# Altium footprint library ADCSFootprints.PcbLib: 63 footprints (part 3 of 4)
Each footprint in its own frame and in the unit in brackets; x right, y up, seen from the top. Pads: shape width x height; smd on the part's side, far side on the other; paste and mask are expansions set on the pad; w line width, h text height; cw(c..) or ccw(c..) is an arc to the next point about the centre after c.
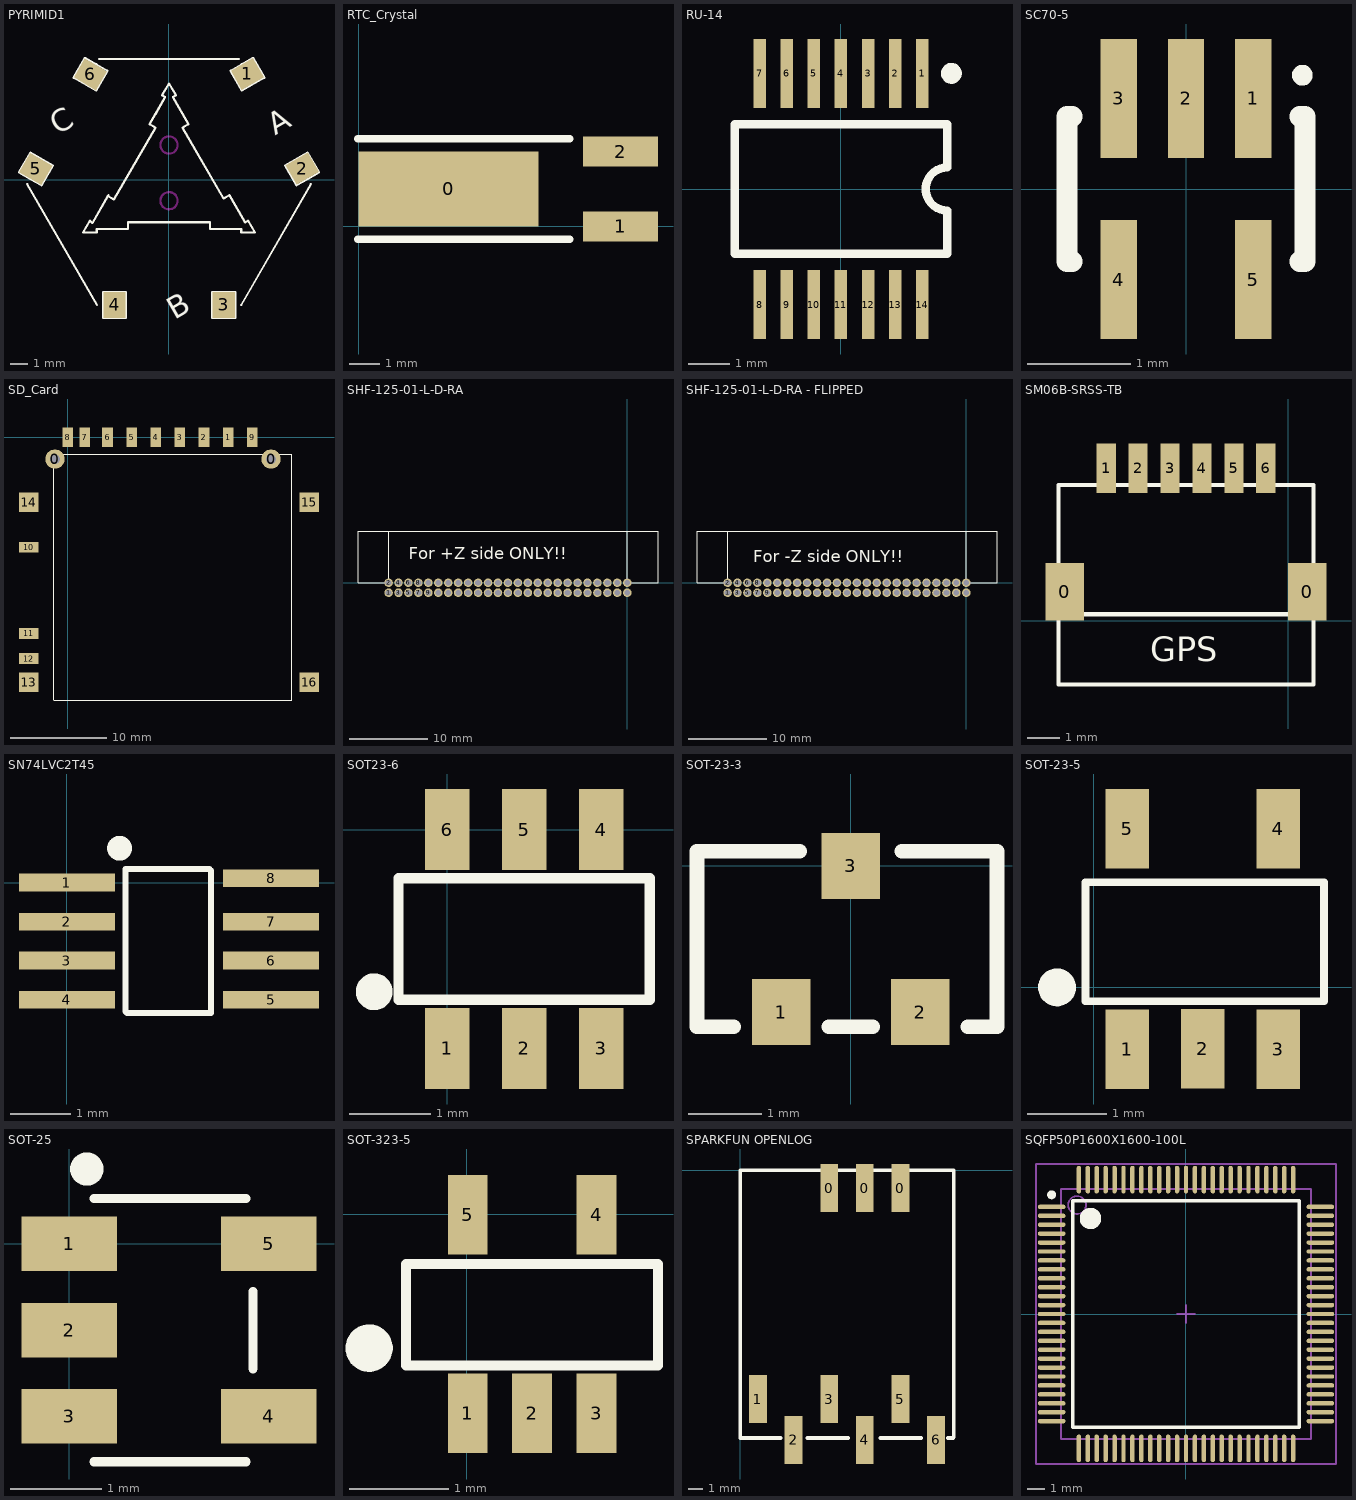
[diagram p2: the footprints below, top view; thin cyan lines are the x and y axes]

## PYRIMID1 [mm] "2 April 2011"
pads (6):
  rect 1.3x1.5 smd rot 120: 1(4.575,6.15) 2(7.75,0.65)
  rect 1.3x1.5 smd: 3(3.2,-7.275) 4(-3.15,-7.275)
  rect 1.3x1.5 smd rot 60: 5(-7.725,0.625) 6(-4.55,6.125)
Top Overlay:
  lines w0.127: -8.227,-0.25 -4.166,-7.283 ; -4.166,-2.867 -2.365,-2.867 ; -4.036,7.009 4.067,7.009 ; -3.528,-0.943 -3.502,-0.898 ; -3.161,-1.095 -0.78,3.029 ; -0.782,3.814 -0.212,4.801 ; 0.243,4.801 1.153,3.226 ; 2.397,-2.867 4.216,-2.867 ; 3.534,-0.898 4.434,-2.458 ; 4.216,-7.283 8.258,-0.25 ; -0.78,3.029 -3.187,-1.14 -3.532,-0.941 -4.443,-2.515 -4.584,-2.374 -4.984,-3.066 -4.184,-3.066 -4.184,-2.866 -2.365,-2.866 -2.365,-2.474 2.397,-2.474 2.397,-2.866 4.216,-2.866 4.216,-3.066 5.016,-3.066 4.616,-2.374 4.443,-2.474 3.533,-0.899 3.193,-1.095 0.812,3.029 1.152,3.226 0.243,4.801 0.416,4.901 0.016,5.594 -0.384,4.901 -0.211,4.801 -1.122,3.227 -0.78,3.029 ; -8.702,0.428 -8.035,1.583 -6.736,0.833 -7.403,-0.322 -8.052,0.053 -8.702,0.428 ; -5.527,5.927 -4.228,5.177 -3.561,6.332 -4.21,6.707 -4.86,7.082 -5.527,5.927 ; -3.817,-8.033 -2.483,-8.033 -2.483,-6.533 -3.817,-6.533 -3.817,-7.283 -3.817,-8.033 ; 2.533,-8.033 2.533,-6.533 3.867,-6.533 3.867,-7.283 3.867,-8.033 2.533,-8.033 ; 3.593,6.332 4.259,5.177 5.558,5.927 4.892,7.082 4.242,6.707 3.593,6.332 ; 6.768,0.833 7.434,-0.322 8.084,0.053 8.733,0.428 8.067,1.583 6.768,0.833
  text "C" at -6.448,2.583 h1.27
  text "B" at 0.342,-8.161 h1.27
  text "A" at 6.186,2.545 h1.27
Keep-Out Layer:
  circle w0.127: c0.016,-1.221 r0.5
  circle w0.127: c0.016,2.016 r0.5

## RTC_Crystal [mm] "ECS-.327-12.5-13FLX-C"
pads (3):
  rect 6x2.5 smd: 0(3,1.25)
  rect 2.5x1 smd: 1(8.75,0) 2(8.75,2.5)
Top Overlay:
  lines w0.254: -0.025,-0.425 7.05,-0.425 ; -0.025,2.925 7.05,2.925

## RU-14 [mm] "Shrink Small Outline, TSSOP; 14 Leads; Body Width 4.4 mm; Pitch 0.65 mm"
height 1.2
pads (14):
  rect 0.3x1.65 smd: 1(1.95,2.775) 2(1.3,2.775) 3(0.65,2.775) 4(0,2.775) 5(-0.65,2.775) 6(-1.3,2.775) 7(-1.95,2.775) 8(-1.95,-2.775) 9(-1.3,-2.775) 10(-0.65,-2.775) 11(0,-2.775) 12(0.65,-2.775) 13(1.3,-2.775) 14(1.95,-2.775)
Top Overlay:
  circle w0.25: c2.65,2.775 r0.125
  lines w0.2: -2.55,-1.55 2.55,-1.55 2.55,-0.517 cw(c2.55,0) 2.55,0.517 2.55,1.55 -2.55,1.55 -2.55,-1.55

## SC70-5 [mm] "SOT-353/SC-88A; 5 Leads; Body 2.2 x 2.4 mm, inc. leads (LxW max)"
height 1.1
pads (5):
  rect 0.35x1.15 smd: 1(0.65,0.875) 2(0,0.875) 3(-0.65,0.875) 4(-0.65,-0.875) 5(0.65,-0.875)
Top Overlay:
  circle w0.1: c1.125,1.1 r0.05
  lines w0.2: -1.1,-0.7 -1.15,-0.7 -1.15,0.7 -1.1,0.7 ; 1.1,-0.7 1.15,-0.7 1.15,0.7 1.1,0.7

## SD_Card [mm]
pads (18):
  round 2 hole 1: 0(-1.325,-2.275) 0(21.075,-2.275)
  rrect0% 1.1x2 smd: 1(16.625,0) 2(14.125,0) 3(11.625,0) 4(9.125,0) 5(6.625,0) 6(4.125,0) 7(1.75,0) 8(0,0) 9(19.125,0)
  rrect0% 2x1.1 smd: 10(-4.05,-11.4) 11(-4.05,-20.35) 12(-4.05,-22.95)
  rrect0% 2x2 smd: 13(-4.05,-25.4) 14(-4.05,-6.75) 15(25.05,-6.75) 16(25.05,-25.4)
Top Overlay:
  lines w0.1: -1.45,-27.3 23.25,-27.3 23.25,-1.775 -0.875,-1.775 -1.45,-1.775 -1.45,-27.225

## SHF-125-01-L-D-RA [mil] "Right angle shrouded header for Samtec ribbon cable assy."
pads (50):
  round 43 hole 29: 1(-1200.79,-50) 2(-1200.79,0) 3(-1150.79,-50) 4(-1150.79,0) 5(-1100.79,-50) 6(-1100.79,0) 7(-1050.79,-50) 8(-1050.79,0) 9(-1000.79,-50) 10(-1000.79,0) 11(-950.79,-50) 12(-950.79,0) 13(-900.79,-50) 14(-900.79,0) 15(-850.79,-50) 16(-850.79,0) 17(-800.79,-50) 18(-800.79,0) 19(-750.79,-50) 20(-750.79,0) 21(-700.79,-50) 22(-700.79,0) 23(-650.79,-50) 24(-650.79,0) 25(-600.79,-50) 26(-600.79,0) 27(-550.79,-50) 28(-550.79,0) 29(-500.79,-50) 30(-500.79,0) 31(-450.79,-50) 32(-450.79,0) 33(-400.79,-50) 34(-400.79,0) 35(-350.79,-50) 36(-350.79,0) 37(-300.79,-50) 38(-300.79,0) 39(-250.79,-50) 40(-250.79,0) 41(-200.79,-50) 42(-200.79,0) 43(-150.79,-50) 44(-150.79,0) 45(-100.79,-50) 46(-100.79,0) 47(-50.79,-50) 48(-50.79,0) 49(-0.79,-50) 50(-0.79,0)
Top Overlay:
  lines w5: -1200.79,0 -1354.33,0 -1354.33,259.84 -1200.79,259.84 ; -1200,0 -1200,260 0,260 0,50 0,0 153.54,0 153.54,259.84 0,259.84
  text "For +Z side ONLY!!" at -1098.43,117.13 h60
3D body: height 64.58, standoff -240.05, extent -1350,-60 150,257.59

## SHF-125-01-L-D-RA - FLIPPED [mil] "Right angle shrouded header for Samtec ribbon cable assy."
pads (50):
  round 43 hole 29: 1(-1200.79,-50) 2(-1200.79,0) 3(-1150.79,-50) 4(-1150.79,0) 5(-1100.79,-50) 6(-1100.79,0) 7(-1050.79,-50) 8(-1050.79,0) 9(-1000.79,-50) 10(-1000.79,0) 11(-950.79,-50) 12(-950.79,0) 13(-900.79,-50) 14(-900.79,0) 15(-850.79,-50) 16(-850.79,0) 17(-800.79,-50) 18(-800.79,0) 19(-750.79,-50) 20(-750.79,0) 21(-700.79,-50) 22(-700.79,0) 23(-650.79,-50) 24(-650.79,0) 25(-600.79,-50) 26(-600.79,0) 27(-550.79,-50) 28(-550.79,0) 29(-500.79,-50) 30(-500.79,0) 31(-450.79,-50) 32(-450.79,0) 33(-400.79,-50) 34(-400.79,0) 35(-350.79,-50) 36(-350.79,0) 37(-300.79,-50) 38(-300.79,0) 39(-250.79,-50) 40(-250.79,0) 41(-200.79,-50) 42(-200.79,0) 43(-150.79,-50) 44(-150.79,0) 45(-100.79,-50) 46(-100.79,0) 47(-50.79,-50) 48(-50.79,0) 49(-0.79,-50) 50(-0.79,0)
Top Overlay:
  lines w5: -1200.79,0 -1354.33,0 -1354.33,259.84 -1200.79,259.84 ; -1200,0 -1200,260 0,260 0,50 0,0 153.54,0 153.54,259.84 0,259.84
  text "For -Z side ONLY!!" at -1070.87,103.35 h60
3D body: height 64.58, standoff -240.05, extent -1350,-60 150,257.59

## SM06B-SRSS-TB [mm] "Right-angle GPS connector"
height 2.9
pads (8):
  rect 1.2x1.8 smd: 0(-7,0.9) 0(0.6,0.9)
  rect 0.6x1.55 smd: 1(-5.7,4.775) 2(-4.7,4.775) 3(-3.7,4.775) 4(-2.7,4.775) 5(-1.7,4.775) 6(-0.7,4.775)
Top Overlay:
  lines w0.127: -7.2,0.2 0,0.2 0.8,0.2 ; 0.8,0.2 0.8,-2 -7.2,-2 -7.2,4.25 0,4.25 0.8,4.25 0.8,0.2
  text "GPS" at -4.318,-1.27 h0.76

## SN74LVC2T45 [mm]
pads (8):
  rrect0% 1.6x0.3 smd: 1(0,0) 2(0,-0.65) 3(0,-1.3) 4(0,-1.95) 5(3.4,-1.95) 6(3.4,-1.3) 7(3.4,-0.65) 8(3.4,0.075)
Top Overlay:
  circle w0.254: c0.875,0.575 r0.079
  lines w0.1: 0.975,0.2 0.975,-2.15 1,-2.175 2.4,-2.175 2.4,0.2 2.375,0.225 0.975,0.225

## SOT23-6 [mm]
pads (6):
  rect 0.55x1 smd: 1(0,-2.7) 2(0.95,-2.7) 3(1.9,-2.7) 4(1.9,0) 5(0.95,0) 6(0,0)
Top Overlay:
  circle w0.254: c-0.9,-2 r0.1
  lines w0.127: -0.6,-2.1 -0.6,-0.6 2.5,-0.6 2.5,-2.1 -0.6,-2.1

## SOT-23-3 [mm]
pads (3):
  rect 0.8x0.9 smd: 1(-0.95,-2) 2(0.95,-2) 3(0,0)
Top Overlay:
  lines w0.2: -1.6,-2.2 -2.1,-2.2 -2.1,0.2 -0.7,0.2 ; -0.3,-2.2 0.3,-2.2 ; 0.7,0.2 2,0.2 2,-2.2 1.6,-2.2

## SOT-23-5 [mm]
pads (5):
  rect 0.55x1 smd: 1(0.425,-0.781) 2(1.375,-0.775) 3(2.325,-0.781) 4(2.325,2) 5(0.425,2)
Top Overlay:
  circle w0.254: c-0.462,0 r0.112
  lines w0.1: -0.1,-0.175 -0.1,1.325 2.902,1.325 2.902,-0.175 -0.1,-0.175

## SOT-25 [mm]
pads (5):
  rrect0% 1.05x0.6 smd: 1(0,0) 2(0,-0.95) 3(0,-1.9) 4(2.2,-1.9) 5(2.2,0)
Top Overlay:
  circle w0.254: c0.194,0.825 r0.056
  lines w0.1: 0.275,-2.4 1.95,-2.4 ; 0.275,0.5 1.95,0.5 ; 2.025,-1.375 2.025,-0.525

## SOT-323-5 [mm]
pads (5):
  rect 0.4x0.8 smd: 1(0.007,-2.006) 2(0.657,-2.006) 3(1.307,-2.006) 4(1.307,-0.006) 5(0.007,-0.006)
Top Overlay:
  circle w0.254: c-0.987,-1.35 r0.112
  lines w0.1: -0.613,-1.525 -0.613,-0.5 1.927,-0.5 1.927,-1.525 -0.613,-1.525

## SPARKFUN OPENLOG [mm] "OPENLOG DATALOGGER FROM SPARKFUN"
height 2.54
pads (9):
  rect 1.27x3.43 smd: 0(6.35,-1.27) 0(8.89,-1.27) 0(11.43,-1.27) 1(1.27,-16.32) 2(3.81,-19.24) 3(6.35,-16.32) 4(8.89,-19.24) 5(11.43,-16.32) 6(13.97,-19.24)
Top Overlay:
  lines w0.254: 2.9,-19.1 0,-19.1 0,0 15.24,0 15.24,-19.05 ; 4.8,-19.1 7.7,-19.1 ; 10,-19.1 12.9,-19.1 ; 14.8,-19.1 15.2,-19.1

## SQFP50P1600X1600-100L [mm] "Shrink QFP, 100-Leads, Body 14x14mm, Pitch 0.5mm, IPC High Density"
height 1.7
pads (100):
  oval 1.55x0.25 smd: 1(-7.525,6) 2(-7.525,5.5) 3(-7.525,5) 4(-7.525,4.5) 5(-7.525,4) 6(-7.525,3.5) 7(-7.525,3) 8(-7.525,2.5) 9(-7.525,2) 10(-7.525,1.5) 11(-7.525,1) 12(-7.525,0.5) 13(-7.525,0) 14(-7.525,-0.5) 15(-7.525,-1) 16(-7.525,-1.5) 17(-7.525,-2) 18(-7.525,-2.5) 19(-7.525,-3) 20(-7.525,-3.5) 21(-7.525,-4) 22(-7.525,-4.5) 23(-7.525,-5) 24(-7.525,-5.5) 25(-7.525,-6) 51(7.525,-6) 52(7.525,-5.5) 53(7.525,-5) 54(7.525,-4.5) 55(7.525,-4) 56(7.525,-3.5) 57(7.525,-3) 58(7.525,-2.5) 59(7.525,-2) 60(7.525,-1.5) 61(7.525,-1) 62(7.525,-0.5) 63(7.525,0) 64(7.525,0.5) 65(7.525,1) 66(7.525,1.5) 67(7.525,2) 68(7.525,2.5) 69(7.525,3) 70(7.525,3.5) 71(7.525,4) 72(7.525,4.5) 73(7.525,5) 74(7.525,5.5) 75(7.525,6)
  oval 0.25x1.55 smd: 26(-6,-7.525) 27(-5.5,-7.525) 28(-5,-7.525) 29(-4.5,-7.525) 30(-4,-7.525) 31(-3.5,-7.525) 32(-3,-7.525) 33(-2.5,-7.525) 34(-2,-7.525) 35(-1.5,-7.525) 36(-1,-7.525) 37(-0.5,-7.525) 38(0,-7.525) 39(0.5,-7.525) 40(1,-7.525) 41(1.5,-7.525) 42(2,-7.525) 43(2.5,-7.525) 44(3,-7.525) 45(3.5,-7.525) 46(4,-7.525) 47(4.5,-7.525) 48(5,-7.525) 49(5.5,-7.525) 50(6,-7.525) 76(6,7.525) 77(5.5,7.525) 78(5,7.525) 79(4.5,7.525) 80(4,7.525) 81(3.5,7.525) 82(3,7.525) 83(2.5,7.525) 84(2,7.525) 85(1.5,7.525) 86(1,7.525) 87(0.5,7.525) 88(0,7.525) 89(-0.5,7.525) 90(-1,7.525) 91(-1.5,7.525) 92(-2,7.525) 93(-2.5,7.525) 94(-3,7.525) 95(-3.5,7.525) 96(-4,7.525) 97(-4.5,7.525) 98(-5,7.525) 99(-5.5,7.525) 100(-6,7.525)
Top Overlay:
  circle w0.25: c-7.525,6.675 r0.125
  circle w0.6: c-5.35,5.35 r0.3
  lines w0.2: -6.35,-6.35 -6.35,6.35 6.35,6.35 6.35,-6.35 -6.35,-6.35
Mechanical 13:
  circle w0.1: c-6.1,6.1 r0.5
  lines w0.1: -7,-7 -7,7 7,7 7,-7 -7,-7
Mechanical 15:
  lines w0.1: -0.5,0 0.5,0 ; 0,-0.5 0,0.5 ; -8.4,-8.4 -8.4,8.4 8.4,8.4 8.4,-8.4 -8.4,-8.4
3D body: height 1.7, standoff 0, extent -7,-7 7,7